# Altium footprint library CUI_CRJ011-ML3-TH.PcbLib: 1 footprints
Each footprint in its own frame and in the unit in brackets; x right, y up, seen from the top. Pads: shape width x height; smd on the part's side, far side on the other; paste and mask are expansions set on the pad; w line width, h text height; cw(c..) or ccw(c..) is an arc to the next point about the centre after c.
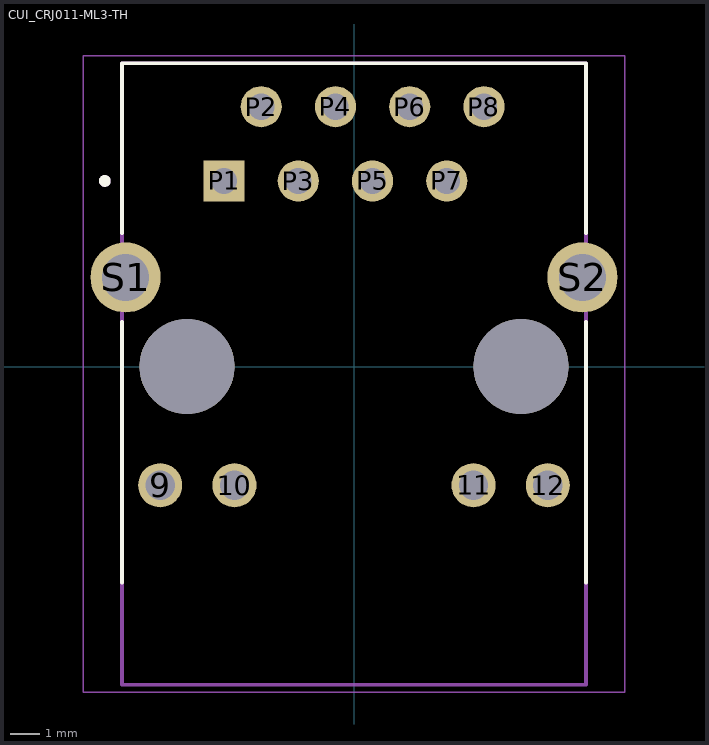
[diagram p0: the footprint, top view; thin cyan lines are the x and y axes]

## CUI_CRJ011-ML3-TH [mm]
height 13.6
pads (16):
  round 1.508 hole 1: 9(-6.63,-4.06) 10(-4.09,-4.06) 11(4.09,-4.06) 12(6.63,-4.06)
  rect 1.408x1.408 / inner round 1.408 / far side rect 1.408x1.408 hole 0.9: P1(-4.445,6.35)
  round 1.408 hole 0.9: P2(-3.175,8.89) P3(-1.905,6.35) P4(-0.635,8.89) P5(0.635,6.35) P6(1.905,8.89) P7(3.175,6.35) P8(4.445,8.89)
  round 2.4 hole 1.6: S1(-7.815,3.05) S2(7.815,3.05)
  round 3.25 hole 3.25 unplated: ""(-5.715,0) ""(5.715,0)
Top Overlay:
  circle w0.2: c-8.525,6.35 r0.1
  lines w0.127: -7.94,-7.39 -7.94,1.53 ; -7.94,4.57 -7.94,10.38 7.94,10.38 7.94,4.57 ; 7.94,-7.39 7.94,1.53
Mechanical 13:
  circle w0.2: c-8.525,6.35 r0.1
  lines w0.127: -7.94,-10.89 -7.94,10.38 7.94,10.38 7.94,-10.89 -7.94,-10.89
Mechanical 15:
  lines w0.05: -9.265,-11.14 9.265,-11.14 9.265,10.63 -9.265,10.63 -9.265,-11.14
3D body "CUI_DEVICES_CRJ011-ML3-TH.step": height 13.6, standoff -3.45, extent -8.357,-10.92 8.323,10.347